# EAGLE library part N256S08 (library mylib)
256Kb Low Power Serial SRAMs 32K × 8 bit Organization
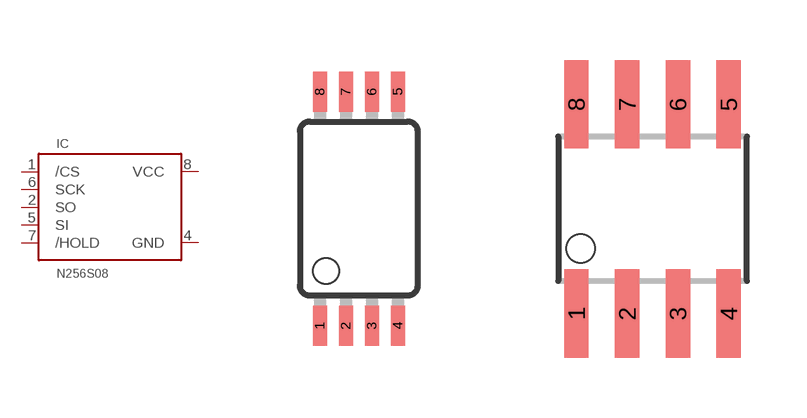
[diagram p3: symbol with the pads of TSSOP8; footprints TSSOP8, SO08]

Designator prefix IC

## N256S0818HDAT2 (SPEED: 16Mhz; SUPPLY: 1V8), N256S0830HDAT2 (SPEED: 20Mhz; SUPPLY: 3V)  [TSSOP8]
1  /CS  in
2  SO  out
4  GND  pwr
5  SI  in
6  SCK  in
7  /HOLD  in
8  VCC  pwr

## N256S0818HDAS2 (SPEED: 16Mhz; SUPPLY: 1V8), N256S0830HDAS2 (SPEED: 20Mhz; SUPPLY: 3V)  [SO08]
Pads as for TSSOP8

## Footprint TSSOP8 (pad centres in mm)
8A2-TSSOP Source: http://www.atmel.com/dyn/resources/prod_documents/doc5089.pdf
smd 0.35 x 1: 1 -0.975,-2.925; 2 -0.325,-2.925; 3 0.325,-2.925; 4 0.975,-2.925; 5 0.975,2.925; 6 0.325,2.925; 7 -0.325,2.925; 8 -0.975,2.925

## Footprint SO08 (pad centres in mm)
Small Outline Package
smd 0.61 x 2.21: 1 -1.905,-2.616; 2 -0.635,-2.616; 3 0.635,-2.616; 4 1.905,-2.616; 5 1.905,2.616; 6 0.635,2.616; 7 -0.635,2.616; 8 -1.905,2.616